# Altium schematic symbol library MOSFET-N3.Schlib: 1 symbol
Pins are listed as number, name and electrical type; pins without a type are passive.

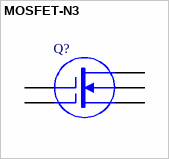
[diagram p0: symbol MOSFET-N3]

## MOSFET-N3
designator Q?
Two-Gate, N-Channel MOSFET, Externally Terminated Substrate
pins: 1 G1, 2 G2, 3 D, 4 U, 5 S